# Altium schematic symbol library Schlib1.SchLib: 2 symbols
Pins are listed as number, name and electrical type; pins without a type are passive.

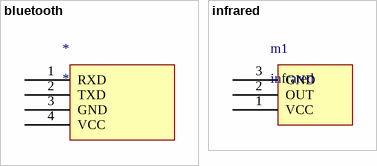
[diagram p0: symbols bluetooth to infrared]

## bluetooth
designator *
footprint bluetooth
pins: 1 RXD, 2 TXD, 3 GND, 4 VCC

## infrared
designator m1
footprint infrared
pins: 1 VCC, 2 OUT, 3 GND